# Altium integrated library MainBoard.IntLib: 13 symbols
Pins are listed as number, name and electrical type; pins without a type are passive.

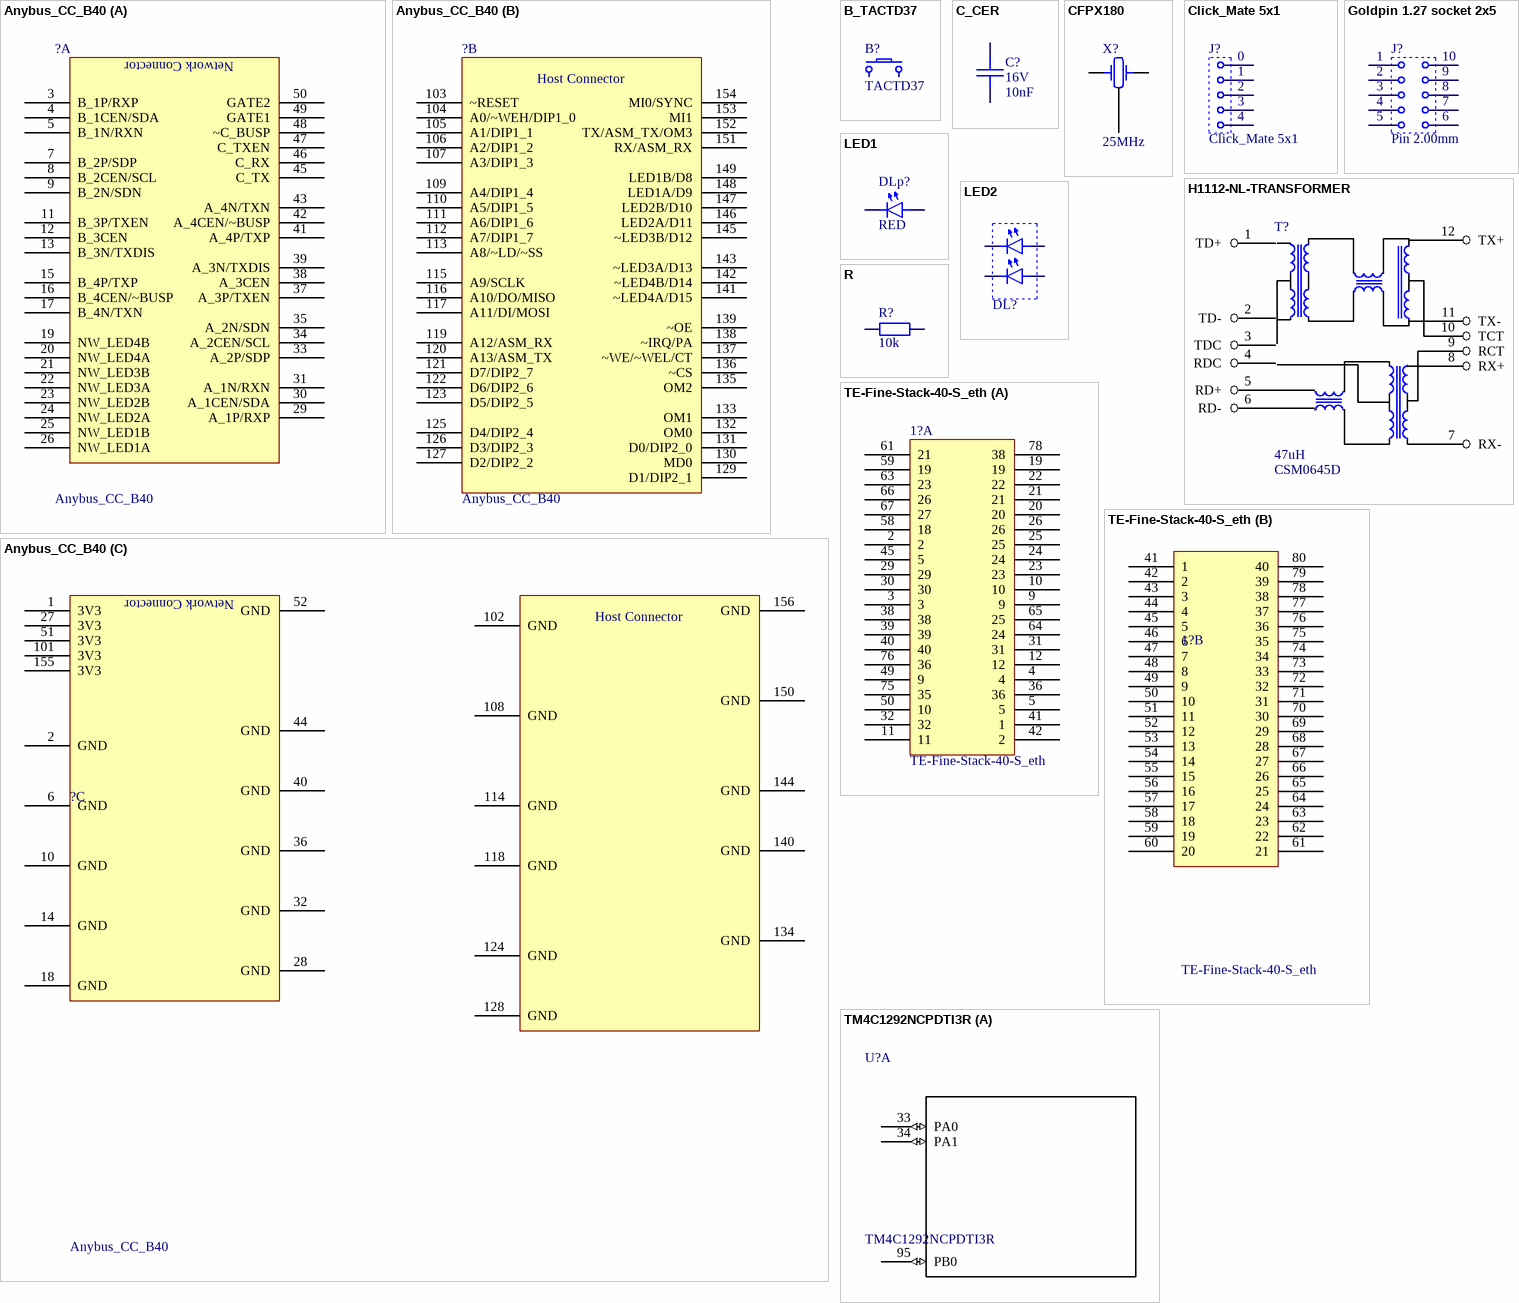
[diagram p0: symbols Anybus_CC_B40 to TM4C1292NCPDTI3R]

## Anybus_CC_B40
designator ?
footprint Anybus-CC-B40
part A pins: 3 B_1P/RXP, 4 B_1CEN/SDA, 5 B_1N/RXN, 7 B_2P/SDP, 8 B_2CEN/SCL, 9 B_2N/SDN, 11 B_3P/TXEN, 12 B_3CEN, 13 B_3N/TXDIS, 15 B_4P/TXP, 16 B_4CEN/~BUSP, 17 B_4N/TXN, 19 NW_LED4B, 20 NW_LED4A, 21 NW_LED3B, 22 NW_LED3A, 23 NW_LED2B, 24 NW_LED2A, 25 NW_LED1B, 26 NW_LED1A, 29 A_1P/RXP, 30 A_1CEN/SDA, 31 A_1N/RXN, 33 A_2P/SDP, 34 A_2CEN/SCL, 35 A_2N/SDN, 37 A_3P/TXEN, 38 A_3CEN, 39 A_3N/TXDIS, 41 A_4P/TXP, 42 A_4CEN/~BUSP, 43 A_4N/TXN, 45 C_TX, 46 C_RX, 47 C_TXEN, 48 ~C_BUSP, 49 GATE1, 50 GATE2
part B pins: 103 ~RESET, 104 A0/~WEH/DIP1_0, 105 A1/DIP1_1, 106 A2/DIP1_2, 107 A3/DIP1_3, 109 A4/DIP1_4, 110 A5/DIP1_5, 111 A6/DIP1_6, 112 A7/DIP1_7, 113 A8/~LD/~SS, 115 A9/SCLK, 116 A10/DO/MISO, 117 A11/DI/MOSI, 119 A12/ASM_RX, 120 A13/ASM_TX, 121 D7/DIP2_7, 122 D6/DIP2_6, 123 D5/DIP2_5, 125 D4/DIP2_4, 126 D3/DIP2_3, 127 D2/DIP2_2, 129 D1/DIP2_1, 130 MD0, 131 D0/DIP2_0, 132 OM0, 133 OM1, 135 OM2, 136 ~CS, 137 ~WE/~WEL/CT, 138 ~IRQ/PA, 139 ~OE, 141 ~LED4A/D15, 142 ~LED4B/D14, 143 ~LED3A/D13, 145 ~LED3B/D12, 146 LED2A/D11, 147 LED2B/D10, 148 LED1A/D9, 149 LED1B/D8, 151 RX/ASM_RX, 152 TX/ASM_TX/OM3, 153 MI1, 154 MI0/SYNC
part C pins: 1 3V3, 2 GND, 6 GND, 10 GND, 14 GND, 18 GND, 27 3V3, 28 GND, 32 GND, 36 GND, 40 GND, 44 GND, 51 3V3, 52 GND, 101 3V3, 102 GND, 108 GND, 114 GND, 118 GND, 124 GND, 128 GND, 134 GND, 140 GND, 144 GND, 150 GND, 155 3V3, 156 GND
part A text: Network Connector
part B text: Host Connector
part C text: Network Connector; Host Connector

## B_TACTD37
designator B?  Symbol: TACTD37  (hidden comment: B_TACTD37)
Tactile Switch 50mA/12VDC 6.1x3.7mm; Supplier: Maritex
footprint _B_TACTD37 (Tactile Switch 6.1x3.7mm)
footprint _B_TACT30 (Tactile switch 1.2x3x2.5mm)
pins: 1, 2

## C_CER
designator C?, comment value 10nF  Voltage: 16V  (hidden comment: 100n)
Ceramic Capacitor
footprint 0805
footprint 0603
footprint 1206_C
footprint 1210_C
footprint CAP0603_M
footprint CAP0805_M
footprint CAP0402_M
footprint 0603 HighDensity
pins: 1, 2

## CFPX180
designator X?, comment 25MHz
Crystal Oscillator; Supplier: Maritex
footprint _X_CFPX180 (XTAL Q0M032D7-TXC Maritex); pin to pad 2>3 3>2+4
pins: 1, 2, 3

## Click_Mate 5x1
designator J?
footprint CLIK-Mate 5x1
pins: 0, 1, 2, 3, 4

## Goldpin 1.27 socket 2x5
designator J?, comment Pin 2.00mm
Symbol: NINIGI ZL265-16DG; URL: http://www.tme.eu/pl/details/zl265-16dg/listwy-i-gniazda-kolkowe/ninigi/#; Supplier: TME
footprint GOLDPIN 1.27MM SOCKET 2X5 SMD
pins: 1, 2, 3, 4, 5, 6, 7, 8, 9, 10

## H1112-NL-TRANSFORMER
designator T?, comment 47uH  Symbol: CSM0645D
Power Inductor; Supplier: Maritex
footprint H1112
pins: 1 TD+, 2 TD-, 3 TDC, 4 RDC, 5 RD+, 6 RD-, 7 RX-, 8 RX+, 9 RCT, 10 TCT, 11 TX-, 12 TX+

## LED1
designator DLp?, comment RED
Light Emitting Diode
footprint LED_3MM (3mm LED)
footprint LED_5MM (5mm LED)
footprint 0805_LED
footprint LED_1W_HPB8-49KYWGB (1W LED)
pins: A 2, K 1

## LED2
designator DL?  (value not drawn)
Light Emitting Diode - Double
footprint 2D-  3528, PLCC4 (DFN, 4-Leads, Body 2,80x3,25mm, Pitch 2,80mm, IPC Medium Density)
pins: 1, 2, 3, 4

## R
designator R?, comment 10k
Resistor
footprint 0805_R
footprint 0603_R
footprint 1206_R
footprint _R_AXIAL_1W_D4L10 (Resistor; 2 Leads; D4mm, L10mm)
footprint _R_CERAMIC_5W
footprint _R_CERAMIC_5W_V (Vertical)
footprint _R_BCS80R001F_8W (8W SMD Resistor)
footprint RES0402_M (Chip Resistor, 2-Leads, Body 1.0x0.5mm, IPC Medium Density)
footprint RES0603_M (Chip Resistor, 2-Leads, Body 1.6x0.8mm, IPC Medium Density)
footprint RES0805_M (Chip Resistor, 2-Leads, Body 2.0x1.3mm, IPC Medium Density)
footprint RES1206_M (Chip Resistor, 2-Leads, Body 3.1x1.6mm, IPC Medium Density)
footprint _R_WSR5Rxxxx (Footprint not found)
footprint 402_R (Chip Resistor, 2-Leads, Body 1,00x0,50mm, IPC Medium Density)
footprint 0603_R HighDensity
footprint 0805_R HighDensity
pins: 1, 2

## TE-Fine-Stack-40-S_eth
designator 1?
footprint TE-FINE-STACK-40-S-Eth
part A pins: 2, 3, 4, 5, 9, 10, 11, 12, 19, 20, 21, 22, 23, 24, 25, 26, 29, 30, 31, 32, 36, 38, 39, 40, 41 1, 42 2, 45 5, 49 9, 50 10, 58 18, 59 19, 61 21, 63 23, 64 24, 65 25, 66 26, 67 27, 75 35, 76 36, 78 38
part B pins: 41 1, 42 2, 43 3, 44 4, 45 5, 46 6, 47 7, 48 8, 49 9, 50 10, 51 11, 52 12, 53 13, 54 14, 55 15, 56 16, 57 17, 58 18, 59 19, 60 20, 61 21, 62 22, 63 23, 64 24, 65 25, 66 26, 67 27, 68 28, 69 29, 70 30, 71 31, 72 32, 73 33, 74 34, 75 35, 76 36, 77 37, 78 38, 79 39, 80 40

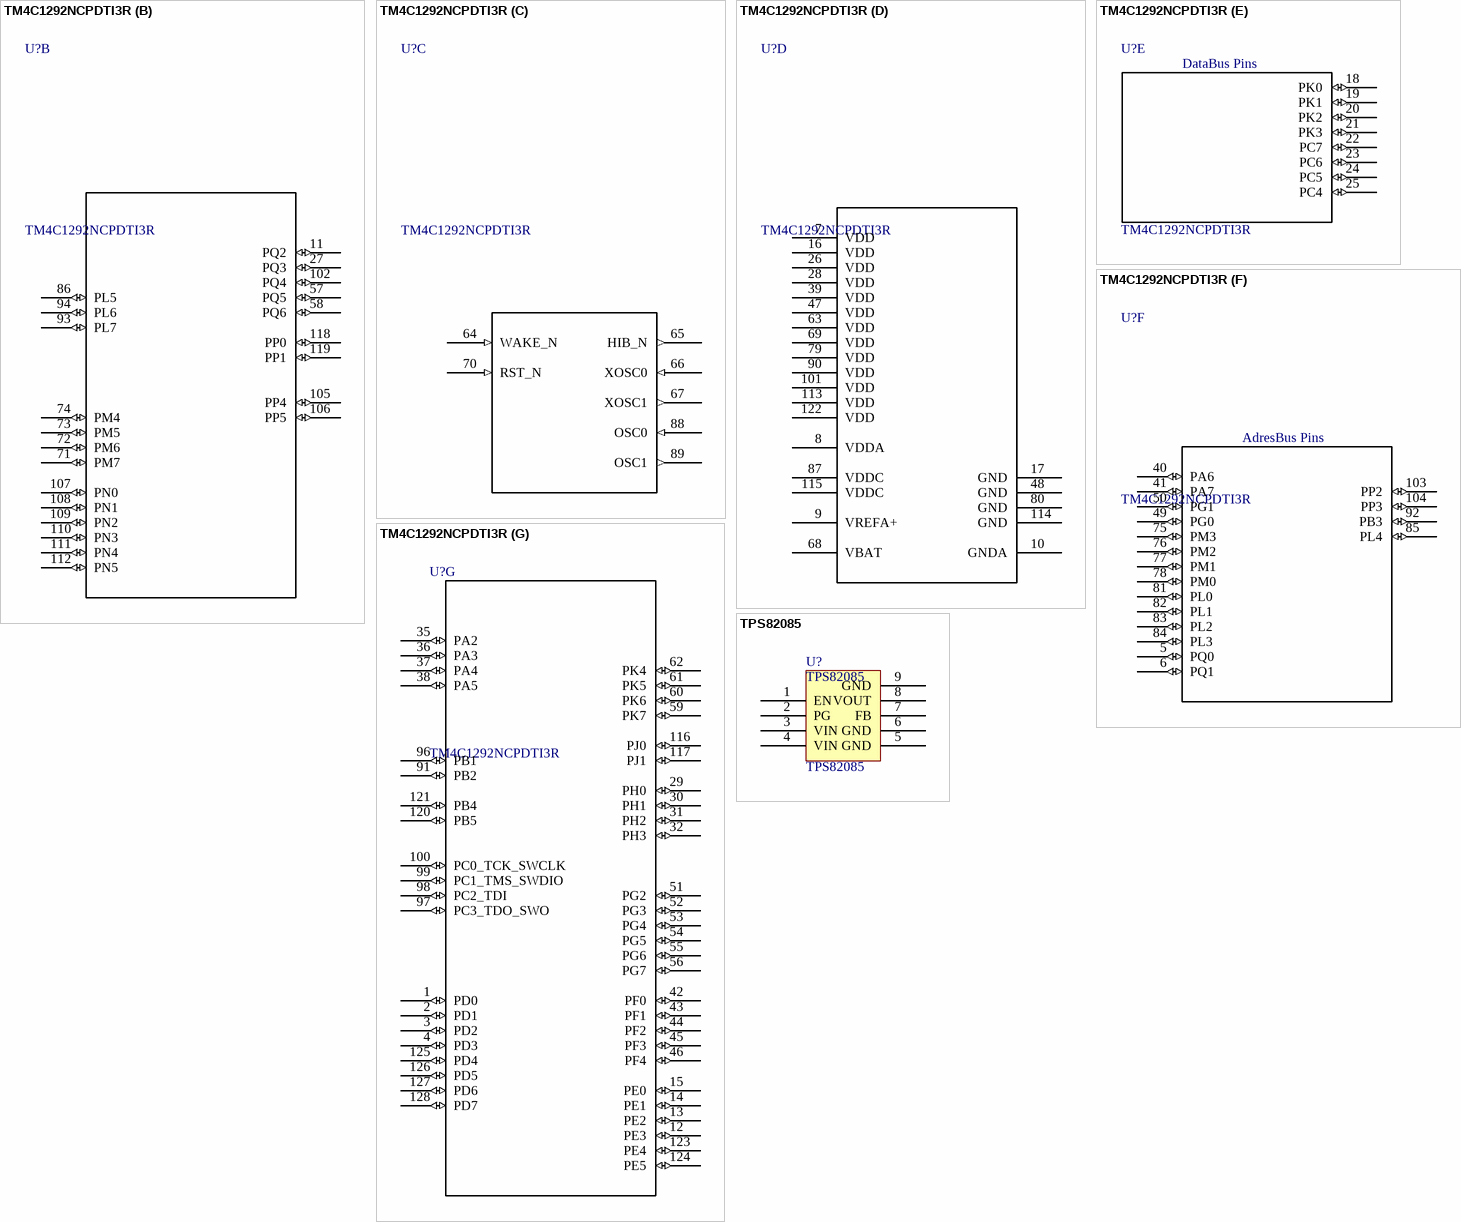
[diagram p1: symbols TM4C1292NCPDTI3R to TPS82085]

## TM4C1292NCPDTI3R
designator U?
Imported; Manufacturer: Texas Instruments; CompType: IC; PIN_COUNT: 128; Application_BuildNumber: *; PartNumber: TM4C1292NCPDTI3R; Alternate PartNumber: TM4C1292NCPDTI3; PackageReference: PDT0128A; MountType: SMT; RoHS: Y; RefDes: RefDes; Type: DEV; Value: Value
footprint PDT0128A_N
part A pins: 33 PA0 (io), 34 PA1 (io), 95 PB0 (io)
part B pins: 11 PQ2 (io), 27 PQ3 (io), 57 PQ5 (io), 58 PQ6 (io), 71 PM7 (io), 72 PM6 (io), 73 PM5 (io), 74 PM4 (io), 86 PL5 (io), 93 PL7 (io), 94 PL6 (io), 102 PQ4 (io), 105 PP4 (io), 106 PP5 (io), 107 PN0 (io), 108 PN1 (io), 109 PN2 (io), 110 PN3 (io), 111 PN4 (io), 112 PN5 (io), 118 PP0 (io), 119 PP1 (io)
part C pins: 64 WAKE_N (in), 65 HIB_N (out), 66 XOSC0 (in), 67 XOSC1 (out), 70 RST_N (in), 88 OSC0 (in), 89 OSC1 (out)
part D pins: 7 VDD (power), 8 VDDA (power), 9 VREFA+ (power), 10 GNDA (power), 16 VDD (power), 17 GND (power), 26 VDD (power), 28 VDD (power), 39 VDD (power), 47 VDD (power), 48 GND (power), 63 VDD (power), 68 VBAT (power), 69 VDD (power), 79 VDD (power), 80 GND (power), 87 VDDC (power), 90 VDD (power), 101 VDD (power), 113 VDD (power), 114 GND (power), 115 VDDC (power), 122 VDD (power)
part E pins: 18 PK0 (io), 19 PK1 (io), 20 PK2 (io), 21 PK3 (io), 22 PC7 (io), 23 PC6 (io), 24 PC5 (io), 25 PC4 (io)
part F pins: 5 PQ0 (io), 6 PQ1 (io), 40 PA6 (io), 41 PA7 (io), 49 PG0 (io), 50 PG1 (io), 75 PM3 (io), 76 PM2 (io), 77 PM1 (io), 78 PM0 (io), 81 PL0 (io), 82 PL1 (io), 83 PL2 (io), 84 PL3 (io), 85 PL4 (io), 92 PB3 (io), 103 PP2 (io), 104 PP3 (io)
part G pins: 1 PD0 (io), 2 PD1 (io), 3 PD2 (io), 4 PD3 (io), 12 PE3 (io), 13 PE2 (io), 14 PE1 (io), 15 PE0 (io), 29 PH0 (io), 30 PH1 (io), 31 PH2 (io), 32 PH3 (io), 35 PA2 (io), 36 PA3 (io), 37 PA4 (io), 38 PA5 (io), 42 PF0 (io), 43 PF1 (io), 44 PF2 (io), 45 PF3 (io), 46 PF4 (io), 51 PG2 (io), 52 PG3 (io), 53 PG4 (io), 54 PG5 (io), 55 PG6 (io), 56 PG7 (io), 59 PK7 (io), 60 PK6 (io), 61 PK5 (io), 62 PK4 (io), 91 PB2 (io), 96 PB1 (io), 97 PC3_TDO_SWO (io), 98 PC2_TDI (io), 99 PC1_TMS_SWDIO (io), 100 PC0_TCK_SWCLK (io), 116 PJ0 (io), 117 PJ1 (io), 120 PB5 (io), 121 PB4 (io), 123 PE4 (io), 124 PE5 (io), 125 PD4 (io), 126 PD5 (io), 127 PD6 (io), 128 PD7 (io)
part E text: DataBus Pins
part F text: AdresBus Pins

## TPS82085
designator U?
3-A, 0.8-6-V, Step-Down DC/DC Converter
footprint uSIP-8 (SON, 8-Leads, Body 3,00x2,80mm, Pitch 0,65mm, Thermal Pad 1,90x1,05mm, IPC Medium Density)
pins: 1 EN, 2 PG, 3 VIN, 4 VIN, 5 GND, 6 GND, 7 FB, 8 VOUT, 9 GND